# EAGLE library part USI_WM_SG_SM_42 (library lorawan-modules)
USI LoRaWAN module WM_SG_SM_42 Link: http://www.usish.com/english/products_WM_SG_SM_42.php
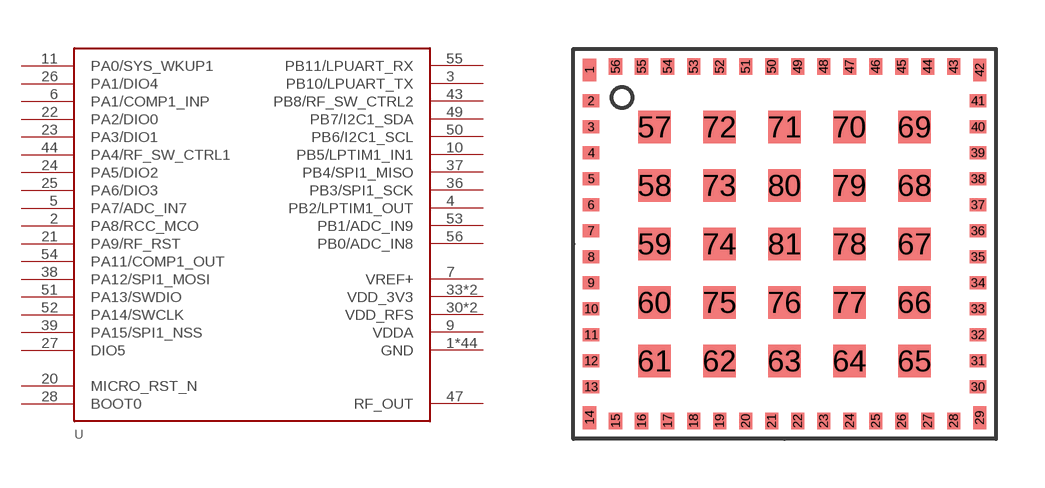
[diagram p9: symbol with the pads of USI_WM_SG_SM_42; footprint USI_WM_SG_SM_42]

Designator prefix -

## USI_WM_SG_SM_42  [USI_WM_SG_SM_42]
1  GND  pwr
2  PA8/RCC_MCO
3  PB10/LPUART_TX
4  PB2/LPTIM1_OUT
5  PA7/ADC_IN7
6  PA1/COMP1_INP
7  VREF+  pwr
8  GND  pwr
9  VDDA  pwr
10  PB5/LPTIM1_IN1
11  PA0/SYS_WKUP1
12  GND  pwr
13  GND  pwr
14  GND  pwr
15  GND  pwr
16  GND  pwr
17  GND  pwr
18  GND  pwr
19  GND  pwr
20  MICRO_RST_N
21  PA9/RF_RST
22  PA2/DIO0
23  PA3/DIO1
24  PA5/DIO2
25  PA6/DIO3
26  PA1/DIO4
27  DIO5
28  BOOT0
29  GND  pwr
30  VDD_RFS  pwr
31  VDD_RFS  pwr
32  GND  pwr
33  VDD_3V3  pwr
34  VDD_3V3  pwr
35  GND  pwr
36  PB3/SPI1_SCK
37  PB4/SPI1_MISO
38  PA12/SPI1_MOSI
39  PA15/SPI1_NSS
40  GND  pwr
41  GND  pwr
42  GND  pwr
43  PB8/RF_SW_CTRL2
44  PA4/RF_SW_CTRL1
45  GND  pwr
46  GND  pwr
47  RF_OUT
48  GND  pwr
49  PB7/I2C1_SDA
50  PB6/I2C1_SCL
51  PA13/SWDIO
52  PA14/SWCLK
53  PB1/ADC_IN9
54  PA11/COMP1_OUT
55  PB11/LPUART_RX
56  PB0/ADC_IN8
57  GND  pwr
58  GND  pwr
59  GND  pwr
60  GND  pwr
61  GND  pwr
62  GND  pwr
63  GND  pwr
64  GND  pwr
65  GND  pwr
66  GND  pwr
67  GND  pwr
68  GND  pwr
69  GND  pwr
70  GND  pwr
71  GND  pwr
72  GND  pwr
73  GND  pwr
74  GND  pwr
75  GND  pwr
76  GND  pwr
77  GND  pwr
78  GND  pwr
79  GND  pwr
80  GND  pwr
81  GND  pwr

## Footprint USI_WM_SG_SM_42 (pad centres in mm)
smd 0.4 x 0.7: 1 -6,5.35; 14 -6,-5.35; 29 6,-5.35; 42 6,5.35
smd 0.5 x 0.4: 2 -5.95,4.4; 3 -5.95,3.6; 4 -5.95,2.8; 5 -5.95,2; 6 -5.95,1.2; 7 -5.95,0.4; 8 -5.95,-0.4; 9 -5.95,-1.2; 10 -5.95,-2; 11 -5.95,-2.8; 12 -5.95,-3.6; 13 -5.95,-4.4; 30 5.95,-4.4; 31 5.95,-3.6; 32 5.95,-2.8; 33 5.95,-2; 34 5.95,-1.2; 35 5.95,-0.4; 36 5.95,0.4; 37 5.95,1.2; 38 5.95,2; 39 5.95,2.8; 40 5.95,3.6; 41 5.95,4.4
smd 0.4 x 0.5: 15 -5.2,-5.45; 16 -4.4,-5.45; 17 -3.6,-5.45; 18 -2.8,-5.45; 19 -2,-5.45; 20 -1.2,-5.45; 21 -0.4,-5.45; 22 0.4,-5.45; 23 1.2,-5.45; 24 2,-5.45; 25 2.8,-5.45; 26 3.6,-5.45; 27 4.4,-5.45; 28 5.2,-5.45; 43 5.2,5.45; 44 4.4,5.45; 45 3.6,5.45; 46 2.8,5.45; 47 2,5.45; 48 1.2,5.45; 49 0.4,5.45; 50 -0.4,5.45; 51 -1.2,5.45; 52 -2,5.45; 53 -2.8,5.45; 54 -3.6,5.45; 55 -4.4,5.45; 56 -5.2,5.45
smd 1 x 1: 57 -4,3.6; 58 -4,1.8; 59 -4,0; 60 -4,-1.8; 61 -4,-3.6; 62 -2,-3.6; 63 0,-3.6; 64 2,-3.6; 65 4,-3.6; 66 4,-1.8; 67 4,0; 68 4,1.8; 69 4,3.6; 70 2,3.6; 71 0,3.6; 72 -2,3.6; 73 -2,1.8; 74 -2,0; 75 -2,-1.8; 76 0,-1.8; 77 2,-1.8; 78 2,0; 79 2,1.8; 80 0,1.8; 81 0,0